# Altium footprint library SHDR7W100P0X508_1X7_3556X820X1000P.PcbLib: 1 footprints
Each footprint in its own frame and in the unit in brackets; x right, y up, seen from the top. Pads: shape width x height; smd on the part's side, far side on the other; paste and mask are expansions set on the pad; w line width, h text height; cw(c..) or ccw(c..) is an arc to the next point about the centre after c.
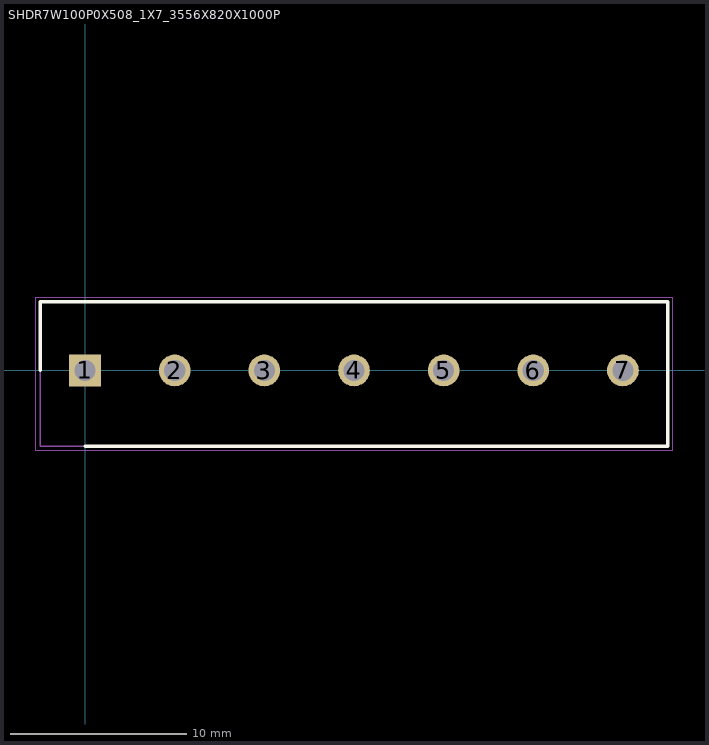
[diagram p0: the footprint, top view; thin cyan lines are the x and y axes]

## SHDR7W100P0X508_1X7_3556X820X1000P [mm]
pads (7):
  rect 1.8x1.8 / inner round 1.8 / far side rect 1.8x1.8 hole 1.2: 1(0,0)
  round 1.8 hole 1.2: 2(5.08,0) 3(10.16,0) 4(15.24,0) 5(20.32,0) 6(25.4,0) 7(30.48,0)
Top Overlay:
  lines w0.2: -2.54,0 -2.54,3.9 33.02,3.9 33.02,-4.3 0,-4.3
Mechanical 15:
  lines w0.1: -2.54,-4.3 -2.54,3.9 33.02,3.9 33.02,-4.3 -2.54,-4.3
Mechanical 20:
  lines w0.05: -2.79,-4.55 -2.79,4.15 33.27,4.15 33.27,-4.55 -2.79,-4.55